# EAGLE library part RESISTOR-ARRAY_YC164-JR-0733RL (library Module_AIO)
RES ARRAY 4 RES 33 OHM 1206 Manufacturer's datasheet <https://www.yageo.com/upload/media/product/productsearch/datasheet/rchip/PYu-YC_TC_group_51_RoHS_L_9.pdf>
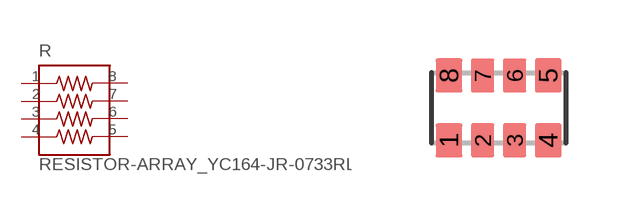
[diagram p12: symbol with the pads of RESISTOR-ARRAY_YC164-JR-0733RL; footprint RESISTOR-ARRAY_YC164-JR-0733RL]

Designator prefix R

## RESISTOR-ARRAY_YC164-JR-0733RL (CREATED_BY: PCBLayout.com; DIGIKEY_PN: YC164J-33TR-ND; MANUFACTURER: Yageo; MPN: YC164-JR-0733RL; PACKAGE: 1206)  [RESISTOR-ARRAY_YC164-JR-0733RL]
1  1  pas
2  2  pas
3  3  pas
4  4  pas
5  5  pas
6  6  pas
7  7  pas
8  8  pas

## Footprint RESISTOR-ARRAY_YC164-JR-0733RL (pad centres in mm)
smd 0.67 x 0.85: 1 -1.24,-0.81; 4 1.24,-0.81; 5 1.24,0.81; 8 -1.24,0.81
smd 0.59 x 0.85: 2 -0.4,-0.81; 3 0.4,-0.81; 6 0.4,0.81; 7 -0.4,0.81